# EAGLE library part AU6366 (library bontor)
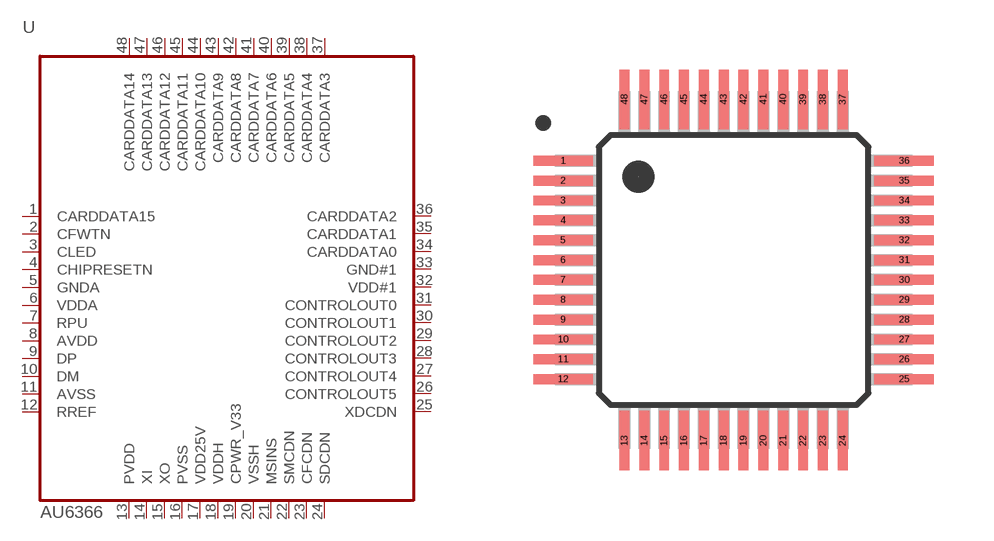
[diagram p5: symbol with the pads of LQFP48; footprint LQFP48]

Designator prefix -

## AU6366  [LQFP48]
1  CARDDATA15
2  CFWTN
3  CLED
4  CHIPRESETN
5  GNDA
6  VDDA
7  RPU
8  AVDD
9  DP
10  DM
11  AVSS
12  RREF
13  PVDD
14  XI
15  XO
16  PVSS
17  VDD25V
18  VDDH
19  CPWR_V33
20  VSSH
21  MSINS
22  SMCDN
23  CFCDN
24  SDCDN
25  XDCDN
26  CONTROLOUT5
27  CONTROLOUT4
28  CONTROLOUT3
29  CONTROLOUT2
30  CONTROLOUT1
31  CONTROLOUT0
32  VDD#1
33  GND#1
34  CARDDATA0
35  CARDDATA1
36  CARDDATA2
37  CARDDATA3
38  CARDDATA4
39  CARDDATA5
40  CARDDATA6
41  CARDDATA7
42  CARDDATA8
43  CARDDATA9
44  CARDDATA10
45  CARDDATA11
46  CARDDATA12
47  CARDDATA13
48  CARDDATA14

## Footprint LQFP48 (pad centres in mm)
smd 1.5 x 0.25: 1 -4.3,2.75; 2 -4.3,2.25; 3 -4.3,1.75; 4 -4.3,1.25; 5 -4.3,0.75; 6 -4.3,0.25; 7 -4.3,-0.25; 8 -4.3,-0.75; 9 -4.3,-1.25; 10 -4.3,-1.75; 11 -4.3,-2.25; 12 -4.3,-2.75; 25 4.3,-2.75; 26 4.3,-2.25; 27 4.3,-1.75; 28 4.3,-1.25; 29 4.3,-0.75; 30 4.3,-0.25; 31 4.3,0.25; 32 4.3,0.75; 33 4.3,1.25; 34 4.3,1.75; 35 4.3,2.25; 36 4.3,2.75
smd 0.25 x 1.5: 13 -2.75,-4.3; 14 -2.25,-4.3; 15 -1.75,-4.3; 16 -1.25,-4.3; 17 -0.75,-4.3; 18 -0.25,-4.3; 19 0.25,-4.3; 20 0.75,-4.3; 21 1.25,-4.3; 22 1.75,-4.3; 23 2.25,-4.3; 24 2.75,-4.3; 37 2.75,4.3; 38 2.25,4.3; 39 1.75,4.3; 40 1.25,4.3; 41 0.75,4.3; 42 0.25,4.3; 43 -0.25,4.3; 44 -0.75,4.3; 45 -1.25,4.3; 46 -1.75,4.3; 47 -2.25,4.3; 48 -2.75,4.3